# EAGLE library part SFV14R-1STE1HLF (library CYCFI_Con)
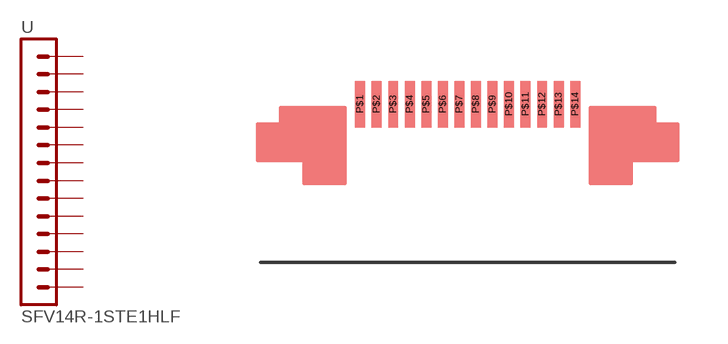
[diagram p13: symbol with the pads of SFV14R-1STE1HLF; footprint SFV14R-1STE1HLF]

Designator prefix -

## SFV14R-1STE1HLF  [SFV14R-1STE1HLF]
P$1  1  pas
P$2  2  pas
P$3  3  pas
P$4  4  pas
P$5  5  pas
P$6  6  pas
P$7  7  pas
P$8  8  pas
P$9  9  pas
P$10  10  pas
P$11  11  pas
P$12  12  pas
P$13  13  pas
P$14  14  pas

## Footprint SFV14R-1STE1HLF (pad centres in mm)
smd 0.3 x 1.4: P$1 -3.25,2.325; P$2 -2.75,2.325; P$3 -2.25,2.325; P$4 -1.75,2.325; P$5 -1.25,2.325; P$6 -0.75,2.325; P$7 -0.25,2.325; P$8 0.25,2.325; P$9 0.75,2.325; P$10 1.25,2.325; P$11 1.75,2.325; P$12 2.25,2.325; P$13 2.75,2.325; P$14 3.25,2.325